# Altium schematic symbol library CANduino_gyro.SchLib: 17 symbols
Pins are listed as number, name and electrical type; pins without a type are passive.

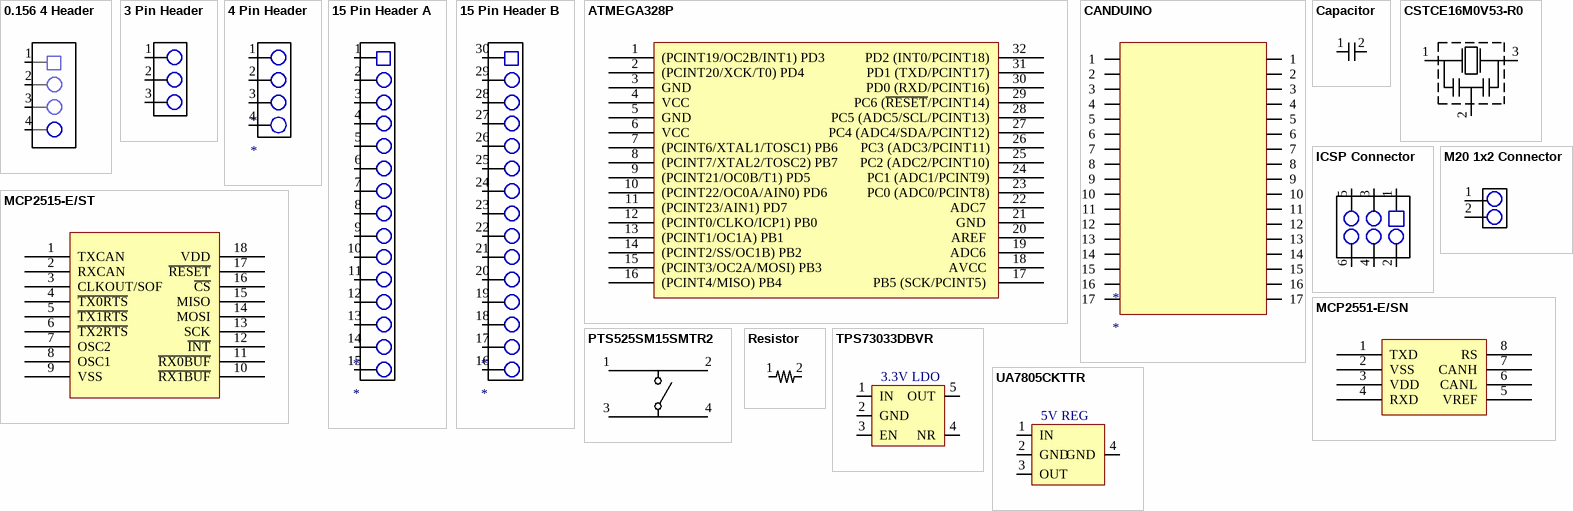
[diagram p0: symbols 0.156 4 Header to UA7805CKTTR]

## 0.156 4 Header
designator *  (value not drawn)
footprint 0.156 Header
pins: 1 12V, 2 GND, 3 CANH, 4 CANL

## 3 Pin Header
designator *  (value not drawn)
footprint 3 Pin Header
pins: 1, 2, 3

## 4 Pin Header
designator *
footprint 4 PIN HEADER (100 mil)
pins: 1, 2, 3, 4

## 15 Pin Header A
designator *
footprint 15 Pin Header A (CANduino IO connections)
pins: 1, 2, 3, 4, 5, 6, 7, 8, 9, 10, 11, 12, 13, 14, 15

## 15 Pin Header B
designator *
footprint 15 Pin Header A (CANduino IO connections); pin to pad 16>3 17>2 18>1 19>6 20>5 21>4 22>9 23>8 24>7 25>12 26>11 27>10 28>15 29>14 30>13
pins: 16, 17, 18, 19, 20, 21, 22, 23, 24, 25, 26, 27, 28, 29, 30

## ATMEGA328P
designator *  (value not drawn)
TQFN
footprint ATMEGA328P-15AZ - 2 (TQFP, 32-Leads, Body 7.00x7.00mm, Pitch 0.80mm, IPC Low Density)
pins: 1 (PCINT19/OC2B/INT1) PD3, 2 (PCINT20/XCK/T0) PD4 , 3 GND , 4 VCC , 5 GND , 6 VCC , 7 (PCINT6/XTAL1/TOSC1) PB6 , 8 (PCINT7/XTAL2/TOSC2) PB7 , 9 (PCINT21/OC0B/T1) PD5 , 10 (PCINT22/OC0A/AIN0) PD6 , 11 (PCINT23/AIN1) PD7 , 12 (PCINT0/CLKO/ICP1) PB0 , 13 (PCINT1/OC1A) PB1 , 14 (PCINT2/SS/OC1B) PB2 , 15 (PCINT3/OC2A/MOSI) PB3 , 16 (PCINT4/MISO) PB4 , 17 PB5 (SCK/PCINT5) , 18 AVCC , 19 ADC6 , 20 AREF , 21 GND , 22 ADC7 , 23 PC0 (ADC0/PCINT8), 24 PC1 (ADC1/PCINT9), 25 PC2 (ADC2/PCINT10), 26 PC3 (ADC3/PCINT11), 27 PC4 (ADC4/SDA/PCINT12), 28 PC5 (ADC5/SCL/PCINT13), 29 PC6 (~{RESET}/PCINT14), 30 PD0 (RXD/PCINT16), 31 PD1 (TXD/PCINT17), 32 PD2 (INT0/PCINT18)

## CANDUINO
designator *
pins: 1, 1, 2, 2, 3, 3, 4, 4, 5, 5, 6, 6, 7, 7, 8, 8, 9, 9, 10, 10, 11, 11, 12, 12, 13, 13, 14, 14, 15, 15, 16, 16, 17, 17

## Capacitor
designator ?
0603
footprint C0603
pins: 1, 2

## CSTCE16M0V53-R0
designator *  (value not drawn)
footprint CSTCE16M0V53-R0 (16MHz Resonator)
pins: 1, 2, 3

## ICSP Connector
designator ?  (value not drawn)
footprint ICSP Connector
pins: 1, 2, 3, 4, 5, 6

## M20 1x2 Connector
designator *  (value not drawn)
footprint M20 1x2 Connectors
pins: 1, 2

## MCP2515-E/ST
designator *  (value not drawn)
SOIC
footprint SOIC127P1030X265-18M (SOIC, 18-Leads, Body 11.50x7.50mm, Pitch 1.27mm, IPC Low Density)
pins: 1 TXCAN , 2 RXCAN , 3 CLKOUT/SOF , 4 ~{TX0RTS} , 5 ~{TX1RTS} , 6 ~{TX2RTS} , 7 OSC2 , 8 OSC1, 9 VSS, 10 ~{RX1BUF}, 11 ~{RX0BUF}, 12 ~{INT}, 13 SCK, 14 MOSI, 15 MISO, 16 ~{CS}, 17 ~{RESET}, 18 VDD

## MCP2551-E/SN
designator U  (value not drawn)
SOIC
footprint SOIC127P600X175-8M (SOIC, 8-Leads, Body 4.90x3.90mm, Pitch 1.27mm, IPC Low Density)
pins: 1 TXD, 2 VSS, 3 VDD, 4 RXD, 5 VREF, 6 CANL, 7 CANH, 8 RS

## PTS525SM15SMTR2
designator *  (value not drawn)
footprint PTS525SM15SMTR2 (Tact Switch)
pins: 1, 2, 3, 4

## Resistor
designator ?
0603
footprint R0603
pins: 1, 2

## TPS73033DBVR
designator *  (value not drawn)
5.5V to 3.3V LDO SOT-23-5
footprint TPS73033DBVR (SOT23, 5-Leads, Body 2.90x2.80mm, Pitch 0.95mm, IPC Medium Density)
pins: 1 IN, 2 GND, 3 EN, 4 NR, 5 OUT
text: 3.3V LDO

## UA7805CKTTR
designator *  (value not drawn)
12V to 5V LDO
footprint DPAK254P1524X483-4M (D2-PAK, 4-Pads, Body 7.93x8.69mm (max), IPC Low Density)
pins: 1 IN, 2 GND, 3 OUT, 4 GND
text: 5V REG